# Altium footprint library B6B-XH-TW .PcbLib: 1 footprints
Each footprint in its own frame and in the unit in brackets; x right, y up, seen from the top. Pads: shape width x height; smd on the part's side, far side on the other; paste and mask are expansions set on the pad; w line width, h text height; cw(c..) or ccw(c..) is an arc to the next point about the centre after c.
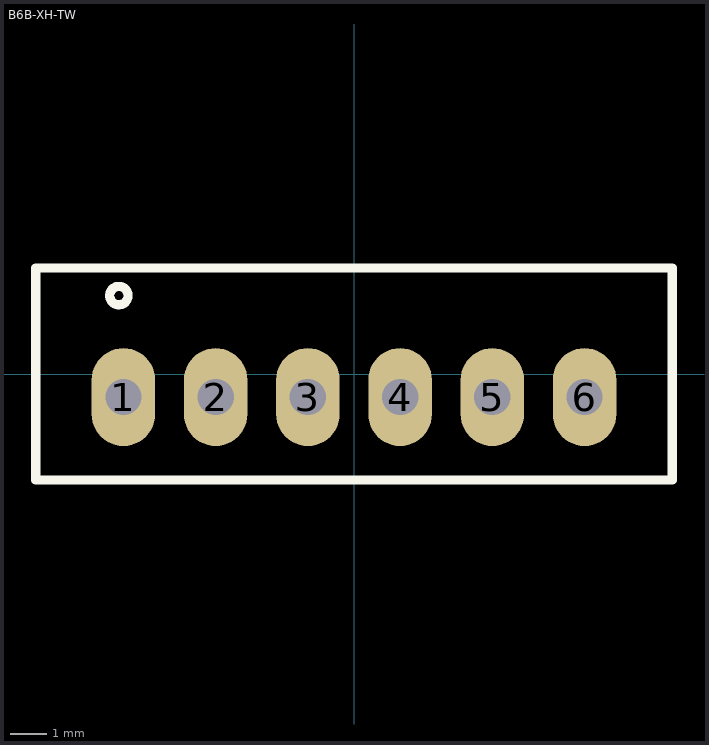
[diagram p0: the footprint, top view; thin cyan lines are the x and y axes]

## B6B-XH-TW [mm]
pads (6):
  oval 1.75x2.7 hole 1: 1(-6.35,-0.635) 2(-3.81,-0.635) 3(-1.27,-0.635) 4(1.27,-0.635) 5(3.81,-0.635) 6(6.35,-0.635)
Top Overlay:
  circle w0.254: c-6.477,2.159 r0.254
  lines w0.254: -8.763,-2.921 8.763,-2.921 8.763,2.921 -8.763,2.921 -8.763,-2.921
3D body "JST 2_54 6x.STEP": height 6.88, standoff -3.2, extent -8.75,-2.875 8.75,2.875